# EAGLE library part AVR-PDI+SERIAL (library con-special_purpose)
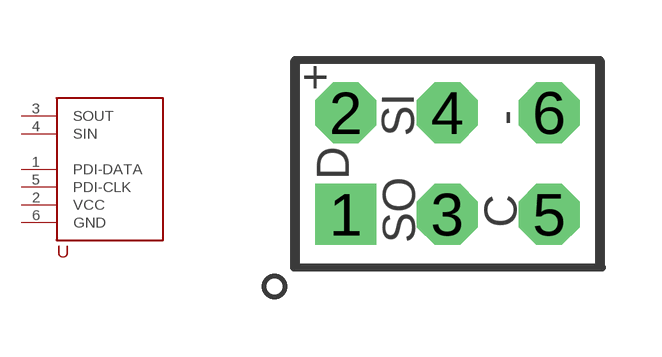
[diagram p10: symbol with the pads of AVR-ISP-6; footprint AVR-ISP-6]

Designator prefix -

## AVR-PDI+SERIAL (PLACE_PART: YES)  [AVR-ISP-6]
1  PDI-DATA
2  VCC
3  SOUT
4  SIN
5  PDI-CLK
6  GND

## Footprint AVR-ISP-6 (pad centres in mm)
PIN HEADER JTAG 6 Pin, 0.1" Straight
drill 1.016 square: 1 -2.54,-1.27
drill 1.016 octagon: 2 -2.54,1.27; 3 0,-1.27; 4 0,1.27; 5 2.54,-1.27; 6 2.54,1.27